# Altium schematic symbol library CommonFiles_Library.SchLib: 27 symbols
Pins are listed as number, name and electrical type; pins without a type are passive.

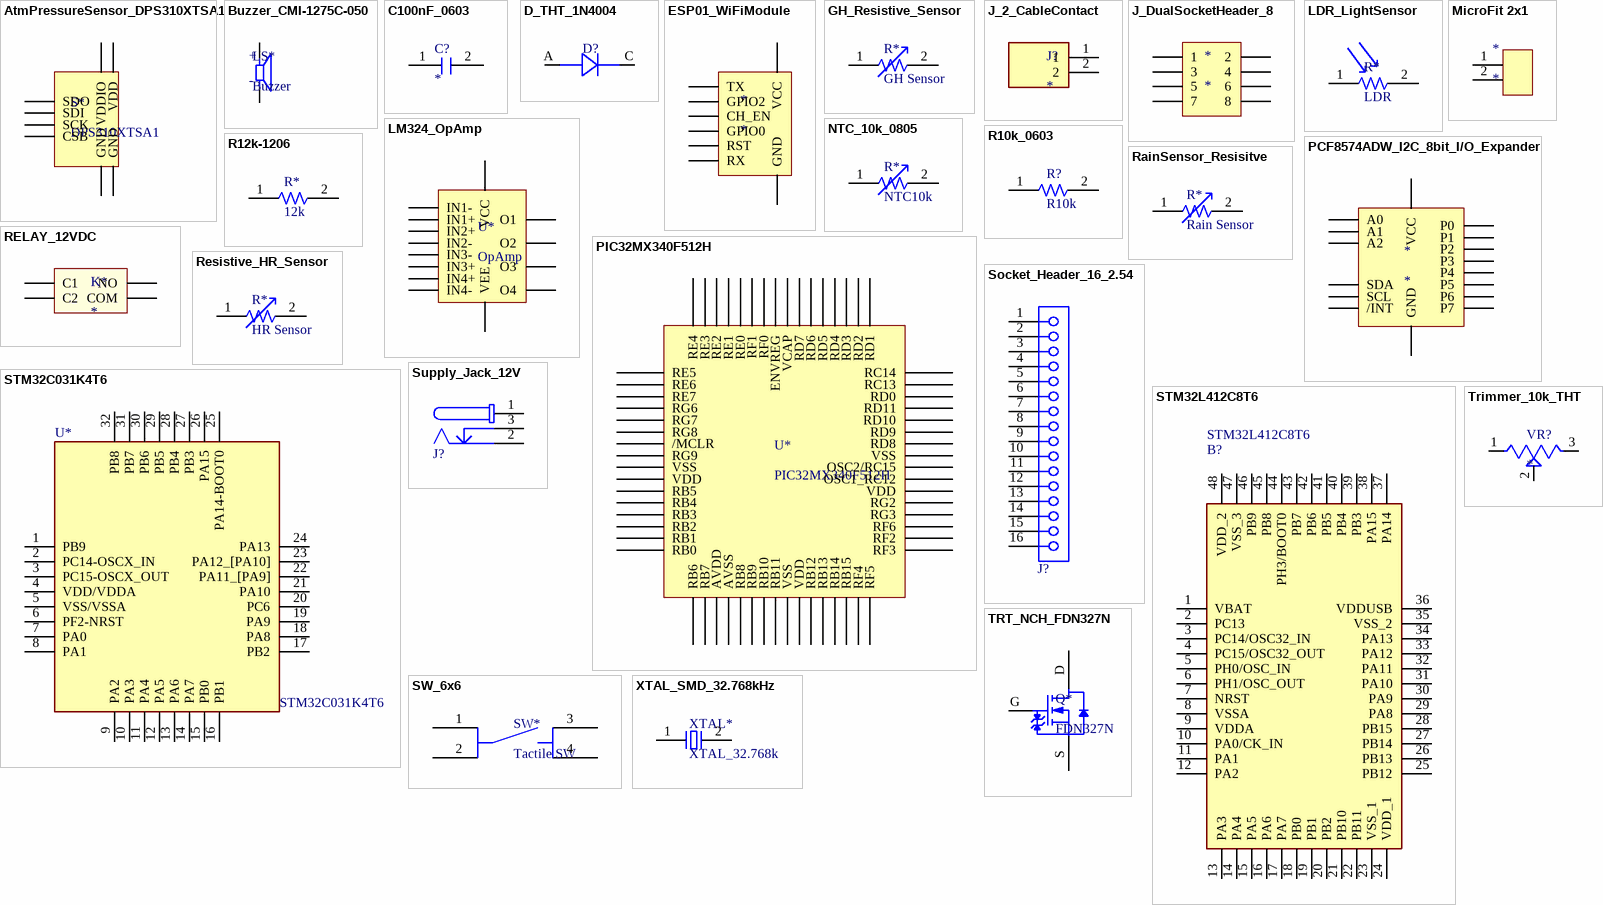
[diagram p0: symbols AtmPressureSensor_DPS310XTSA1 to XTAL_SMD_32.768kHz]

## AtmPressureSensor_DPS310XTSA1
designator S*, comment DPS310XTSA1
DPS310 Digital Pressure Sensor
footprint XDCR_DPS310XTSA1
pins: 1 GND, 2 CSB, 3 SDI, 4 SCK, 5 SDO, 6 VDDIO, 7 GND, 8 VDD

## Buzzer_CMI-1275C-050
designator LS*, comment Buzzer
12 mm, 5 Vdc, 90 dB, 3.1 kHz, Through Hole, Magnetic Audio Indicator Buzzer; MF: CUI Devices; MP: CMI-1275C-050; SnapEDA_Link: https://www.snapeda.com/parts/CMI-1275C-050/CUI%20Devices/view-part/2772244/?ref=snap; Price: None; Mouser-Purchase-URL: https://snapeda.com/shop?store=Mouser&id=2772244; CUI_purchase_URL: https://www.cuidevices.com/product/audio/buzzers/audio-indicators/cmi-1275c-050?utm_source=snapeda.com&utm_medium=referral&utm_campaign=snapedaBOM; DigiKey-Purchase-URL: https://snapeda.com/shop?store=DigiKey&id=2772244; Value: *; Package: TO-220 CUI Inc.; Availability: Unavailable
footprint CUI_CMI-1275C-050
pins: N, P
text: +; -

## C100nF_0603
designator C?
footprint Chip2PinSM127P600-8N
pins: 1, 2

## D_THT_1N4004
designator D?  (value not drawn)
Diode Standard 400V 1A Through Hole DO-41; MP: 1N4004; MF: ON Semiconductor; Value: *; SnapEDA_Link: https://www.snapeda.com/parts/1N4004/ON%20Semiconductor/view-part/2776954/?ref=snap; Check_prices: https://www.snapeda.com/parts/1N4004/ON%20Semiconductor/view-part/2776954/?ref=eda; Availability: Good; Price: None; Package: DO-41 Diodes Inc.
footprint D_THT
pins: A, C

## ESP01_WiFiModule
designator *
footprint Dual socket header 8 pins (Socket Header, Pitch 2.54 mm, THT, Vertical, dual row, 8p)
pins: 1 GND, 2 TX, 3 GPIO2, 4 CH_EN, 5 GPIO0, 6 RST, 7 RX, 8 VCC

## GH_Resistive_Sensor
designator R*, comment GH Sensor
footprint EXTERNAL_SENSOR (2 PADS FOR EXTERNAL SOLDERING)
pins: 1 2, 2

## J_2_CableContact
designator J?
MP: 282834-2; MF: {'manufacturer': u'TE Connectivity'}; Value: *; Availability: Unavailable; Package: None; Price: None
footprint TE_282834-2
pins: 1, 2

## J_DualSocketHeader_8
designator *
footprint Dual socket header 8 pins (Socket Header, Pitch 2.54 mm, THT, Vertical, dual row, 8p)
pins: 1, 2, 3, 4, 5, 6, 7, 8

## LDR_LightSensor
designator R*, comment LDR
footprint HR_Sensor
pins: 1 2, 2

## LM324_OpAmp
designator U*, comment OpAmp
footprint LM324_OpAmp (SOIC, 14-Leads, Body 8,65x3,90mm, Pitch 1,27mm, IPC Medium Density)
pins: 1 O1, 2 IN1-, 3 IN1+, 4 VCC, 5 IN2+, 6 IN2-, 7 O2, 8 O3, 9 IN3-, 10 IN3+, 11 VEE, 12 IN4+, 13 IN4-, 14 O4

## MicroFit 2x1
designator *
footprint MOLEX_43045-0200
pins: 1, 2

## NTC_10k_0805
designator R*, comment NTC10k
footprint NTC10k_0805 (Chip Resistor, 2-Leads, Body 1,00x0,50mm, IPC Medium Density)
pins: 1 2, 2

## PCF8574ADW_I2C_8bit_I/O_Expander
designator *
footprint PCF8574A_SOIC16
pins: 1 A0, 2 A1, 3 A2, 4 P0, 5 P1, 6 P2, 7 P3, 8 GND, 9 P4, 10 P5, 11 P6, 12 P7, 13 /INT, 14 SCL, 15 SDA, 16 VCC

## PIC32MX340F512H
designator U*
footprint QFP50P1200X1200X120_64N
pins: 1 RE5, 2 RE6, 3 RE7, 4 RG6, 5 RG7, 6 RG8, 7 /MCLR, 8 RG9, 9 VSS, 10 VDD, 11 RB5, 12 RB4, 13 RB3, 14 RB2, 15 RB1, 16 RB0, 17 RB6, 18 RB7, 19 AVDD, 20 AVSS, 21 RB8, 22 RB9, 23 RB10, 24 RB11, 25 VSS, 26 VDD, 27 RB12, 28 RB13, 29 RB14, 30 RB15, 31 RF4, 32 RF5, 33 RF3, 34 RF2, 35 RF6, 36 RG3, 37 RG2, 38 VDD, 39 OSC1_RC12, 40 OSC2/RC15, 41 VSS, 42 RD8, 43 RD9, 44 RD10, 45 RD11, 46 RD0, 47 RC13, 48 RC14, 49 RD1, 50 RD2, 51 RD3, 52 RD4, 53 RD5, 54 RD6, 55 RD7, 56 VCAP, 57 ENVREG, 58 RF0, 59 RF1, 60 RE0, 61 RE1, 62 RE2, 63 RE3, 64 RE4

## R10k_0603
designator R?, comment R10k
footprint R0603
pins: 1 2, 2

## R12k-1206
designator R*, comment 12k
footprint R1206 (Chip Resistor, 2-Leads, Body 3,10x1,60mm, IPC Medium Density)
pins: 1 2, 2

## RainSensor_Resisitve
designator R*, comment Rain Sensor
footprint EXTERNAL_SENSOR (2 PADS FOR EXTERNAL SOLDERING)
pins: 1 2, 2

## RELAY_12VDC
designator K*
footprint RELAY_1461402-6
pins: C1, C2, COM, NO

## Resistive_HR_Sensor
designator R*, comment HR Sensor
Resistive HR Sensor. R30k at 60%@25ºC
footprint HR_Sensor
pins: 1 2, 2

## Socket_Header_16_2.54
designator J?, comment 16 SH  (value not drawn)
WR-PHD Socket Header, THT, Vertical, pitch 2.54mm, 1 Row, 16P; Manufacturer Part Number: 61301611821; Manufacturer: Wurth Elektronik; Contact Resistance: 20mΩ; Rated Current: 3A; Working Voltage: 250V; Withstanding Voltage: 500V; ComponentLink1Description: Website Link; ComponentLink1URL: https://www.we-online.com/redexpert/article/61301611821?ad; ComponentLink2Description: Datasheet Link; ComponentLink2URL: https://www.we-online.com/redexpert/spec/61301611821?ad; Category: Board-to-Board Connectors; Match Code: WR-PHD; Mount: Through Hole; Operating Temperature Max: 125°C; Operating Temperature Min: -40°C; Packaging: Tray; Gender: Socket Header; Number of Pins: 16; Number of Rows: 1; Orientation: Vertical; Pitch: 2.54mm
footprint SocketHeader_16_254 (Socket Header, Pitch 2.54 mm, THT, Vertical, single row, 16p)
pins: 1, 2, 3, 4, 5, 6, 7, 8, 9, 10, 11, 12, 13, 14, 15, 16

## STM32C031K4T6
designator U*
Mainstream Arm Cortex-M0+ MCU with 16 Kbytes of Flash memory, 12 Kbytes RAM, 48 MHz CPU, 2x USART, timers, ADC, comm. I/F, 2-3.6V; Manufacturer_Name: STMicroelectronics; Geometry.Height: 1.6mm; Mouser Part Number: 511-STM32C031K4T6; Mouser Price/Stock: https://www.mouser.co.uk/ProductDetail/STMicroelectronics/STM32C031K4T6?qs=IPgv5n7u5QbiXsG7yxbPWw%3D%3D; Manufacturer_Part_Number: STM32C031K4T6; Datasheet Link: https://www.st.com/resource/en/datasheet/stm32c031c4.pdf
footprint QFP80P900X900X160-32N
pins: 1 PB9, 2 PC14-OSCX_IN, 3 PC15-OSCX_OUT, 4 VDD/VDDA, 5 VSS/VSSA, 6 PF2-NRST, 7 PA0, 8 PA1, 9 PA2, 10 PA3, 11 PA4, 12 PA5, 13 PA6, 14 PA7, 15 PB0, 16 PB1, 17 PB2, 18 PA8, 19 PA9, 20 PC6, 21 PA10, 22 PA11_[PA9], 23 PA12_[PA10], 24 PA13, 25 PA14-BOOT0, 26 PA15, 27 PB3, 28 PB4, 29 PB5, 30 PB6, 31 PB7, 32 PB8

## STM32L412C8T6
designator B?
STMICROELECTRONICS - STM32L412C8T6 - MCU, 32BIT, 80MHZ; Geometry.Height: 1.6mm; Mouser Part Number: 511-STM32L412C8T6; Mouser Price/Stock: https://www.mouser.co.uk/ProductDetail/STMicroelectronics/STM32L412C8T6?qs=l7cgNqFNU1hAS2azFRLB0A%3D%3D; Manufacturer_Name: STMicroelectronics; Manufacturer_Part_Number: STM32L412C8T6; Datasheet Link: https://www.st.com/resource/en/datasheet/stm32l412c8.pdf
footprint QFP50P900X900X160-48N
pins: 1 VBAT, 2 PC13, 3 PC14/OSC32_IN, 4 PC15/OSC32_OUT, 5 PH0/OSC_IN, 6 PH1/OSC_OUT, 7 NRST, 8 VSSA, 9 VDDA, 10 PA0/CK_IN, 11 PA1, 12 PA2, 13 PA3, 14 PA4, 15 PA5, 16 PA6, 17 PA7, 18 PB0, 19 PB1, 20 PB2, 21 PB10, 22 PB11, 23 VSS_1, 24 VDD_1, 25 PB12, 26 PB13, 27 PB14, 28 PB15, 29 PA8, 30 PA9, 31 PA10, 32 PA11, 33 PA12, 34 PA13, 35 VSS_2, 36 VDDUSB, 37 PA14, 38 PA15, 39 PB3, 40 PB4, 41 PB5, 42 PB6, 43 PB7, 44 PH3/BOOT0, 45 PB8, 46 PB9, 47 VSS_3, 48 VDD_2

## Supply_Jack_12V
designator J?, comment 694108301002  (value not drawn)
WR-DC DC Power Jack Connector, Male, Right Angled, 24V, 5A; Manufacturer: Wurth Elektronik; Opening Diameter: 6.4mm; Plug Inner Diameter: 2.55mm; Plug Outer Diameter: 5.5mm; ComponentLink1Description: Website Link; ComponentLink1URL: https://www.we-online.com/redexpert/article/694108301002?ad; ComponentLink2Description: Datasheet Link; ComponentLink2URL: https://www.we-online.com/redexpert/spec/694108301002?ad; Manufacturer Part Number: 694108301002; Category: DC Power Jack Connector; Match Code: WR-DC; Mount: Through Hole; Operating Temperature Max: 85°C; Operating Temperature Min: -40°C; Packaging: Bag; Gender: Male; Orientation: Right Angled; Rated Current: 5A; Working Voltage: 24V
footprint 694108301002 (DC Power Jack Right Angled(6.4))
pins: 1, 2, 3

## SW_6x6
designator SW*, comment Tactile SW
footprint SW_2-1437565-7
pins: 1, 2, 3, 4

## Trimmer_10k_THT
designator VR?
Trimmer, Cermet, Rest 10 Kilohms, PCB, 1 Turns, Pwr-Rtg 0.5 W, Tol 10% | Bourns 3362P-1-103LF; SnapEDA_Link: https://www.snapeda.com/parts/3362P-1-103LF/Bourns/view-part/?ref=snap; Package: 3362P-1 Bourns Inc.; Value: *; MF: Bourns; MP: 3362P-1-103LF; Check_prices: https://www.snapeda.com/parts/3362P-1-103LF/Bourns/view-part/?ref=eda
footprint TRIM_3362P-1-103LF
pins: 1 CCW, 2 WIPER, 3 CW

## TRT_NCH_FDN327N
designator Q*, comment FDN327N
footprint SuperSOT3 (SOT23, 3-Leads, Body 2,92x2,51mm, Pitch 0,95mm, IPC Medium Density)
pins: D, G, S

## XTAL_SMD_32.768kHz
designator XTAL*, comment XTAL_32.768k
footprint XTAL_ABS06-32.768KHZ-9-T
pins: 1, 2